# Altium schematic symbol library digital_clock.SchLib: 3 symbols
Pins are listed as number, name and electrical type; pins without a type are passive.

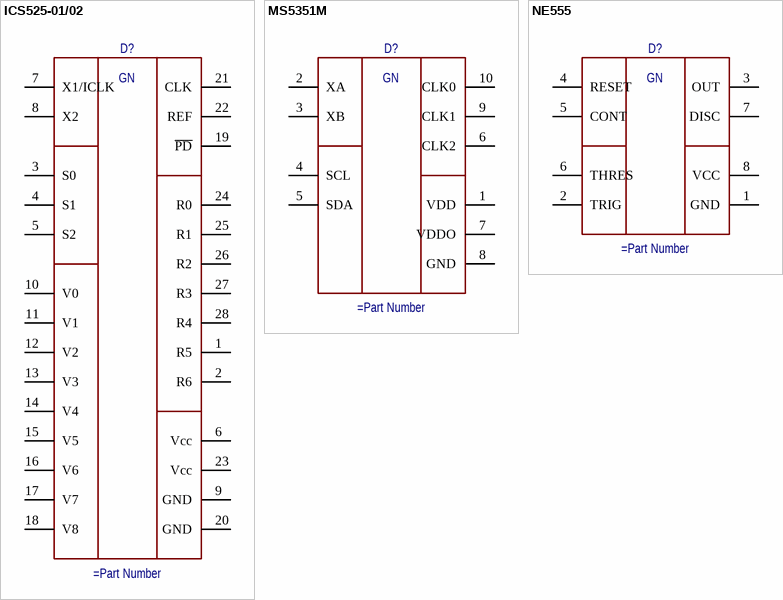
[diagram p0: symbols ICS525-01/02 to NE555]

## ICS525-01/02
designator D?
Configurable Clock
pins: 1 R5, 2 R6, 3 S0, 4 S1, 5 S2, 6 Vcc, 7 X1/ICLK, 8 X2, 9 GND, 10 V0, 11 V1, 12 V2, 13 V3, 14 V4, 15 V5, 16 V6, 17 V7, 18 V8, 19 ~{PD}, 20 GND, 21 CLK, 22 REF, 23 Vcc, 24 R0, 25 R1, 26 R2, 27 R3, 28 R4
text: GN

## MS5351M
designator D?
Configurable Clock
pins: 1 VDD, 2 XA, 3 XB, 4 SCL, 5 SDA, 6 CLK2, 7 VDDO, 8 GND, 9 CLK1, 10 CLK0
text: GN

## NE555
designator D?
555 TIMER
pins: 1 GND, 2 TRIG, 3 OUT, 4 RESET, 5 CONT, 6 THRES, 7 DISC, 8 VCC
text: GN